# Altium schematic symbol library BAT54CWFILMY.SchLib: 1 symbol
Pins are listed as number, name and electrical type; pins without a type are passive.

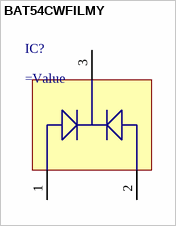
[diagram p0: symbol BAT54CWFILMY]

## BAT54CWFILMY
designator IC?
=Description
pins: 1, 2, 3